# EAGLE library part GY-65 (library piweather)
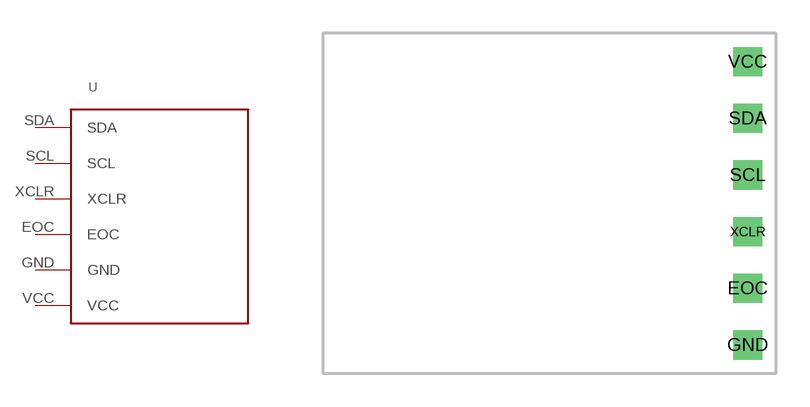
[diagram p4: symbol with the pads of GY_65; footprint GY_65]

Designator prefix -

## GY-65  [GY_65]
EOC  EOC
GND  GND
SCL  SCL
SDA  SDA
VCC  VCC
XCLR  XCLR

## Footprint GY_65 (pad centres in mm)
drill 0.8 square: EOC 5.08,-3.81; GND 5.08,-6.35; SCL 5.08,1.27; SDA 5.08,3.81; VCC 5.08,6.35; XCLR 5.08,-1.27